# Altium footprint library SparkFun-Connectors.PCBLIB: 379 footprints (part 10 of 24)
Each footprint in its own frame and in the unit in brackets; x right, y up, seen from the top. Pads: shape width x height; smd on the part's side, far side on the other; paste and mask are expansions set on the pad; w line width, h text height; cw(c..) or ccw(c..) is an arc to the next point about the centre after c.
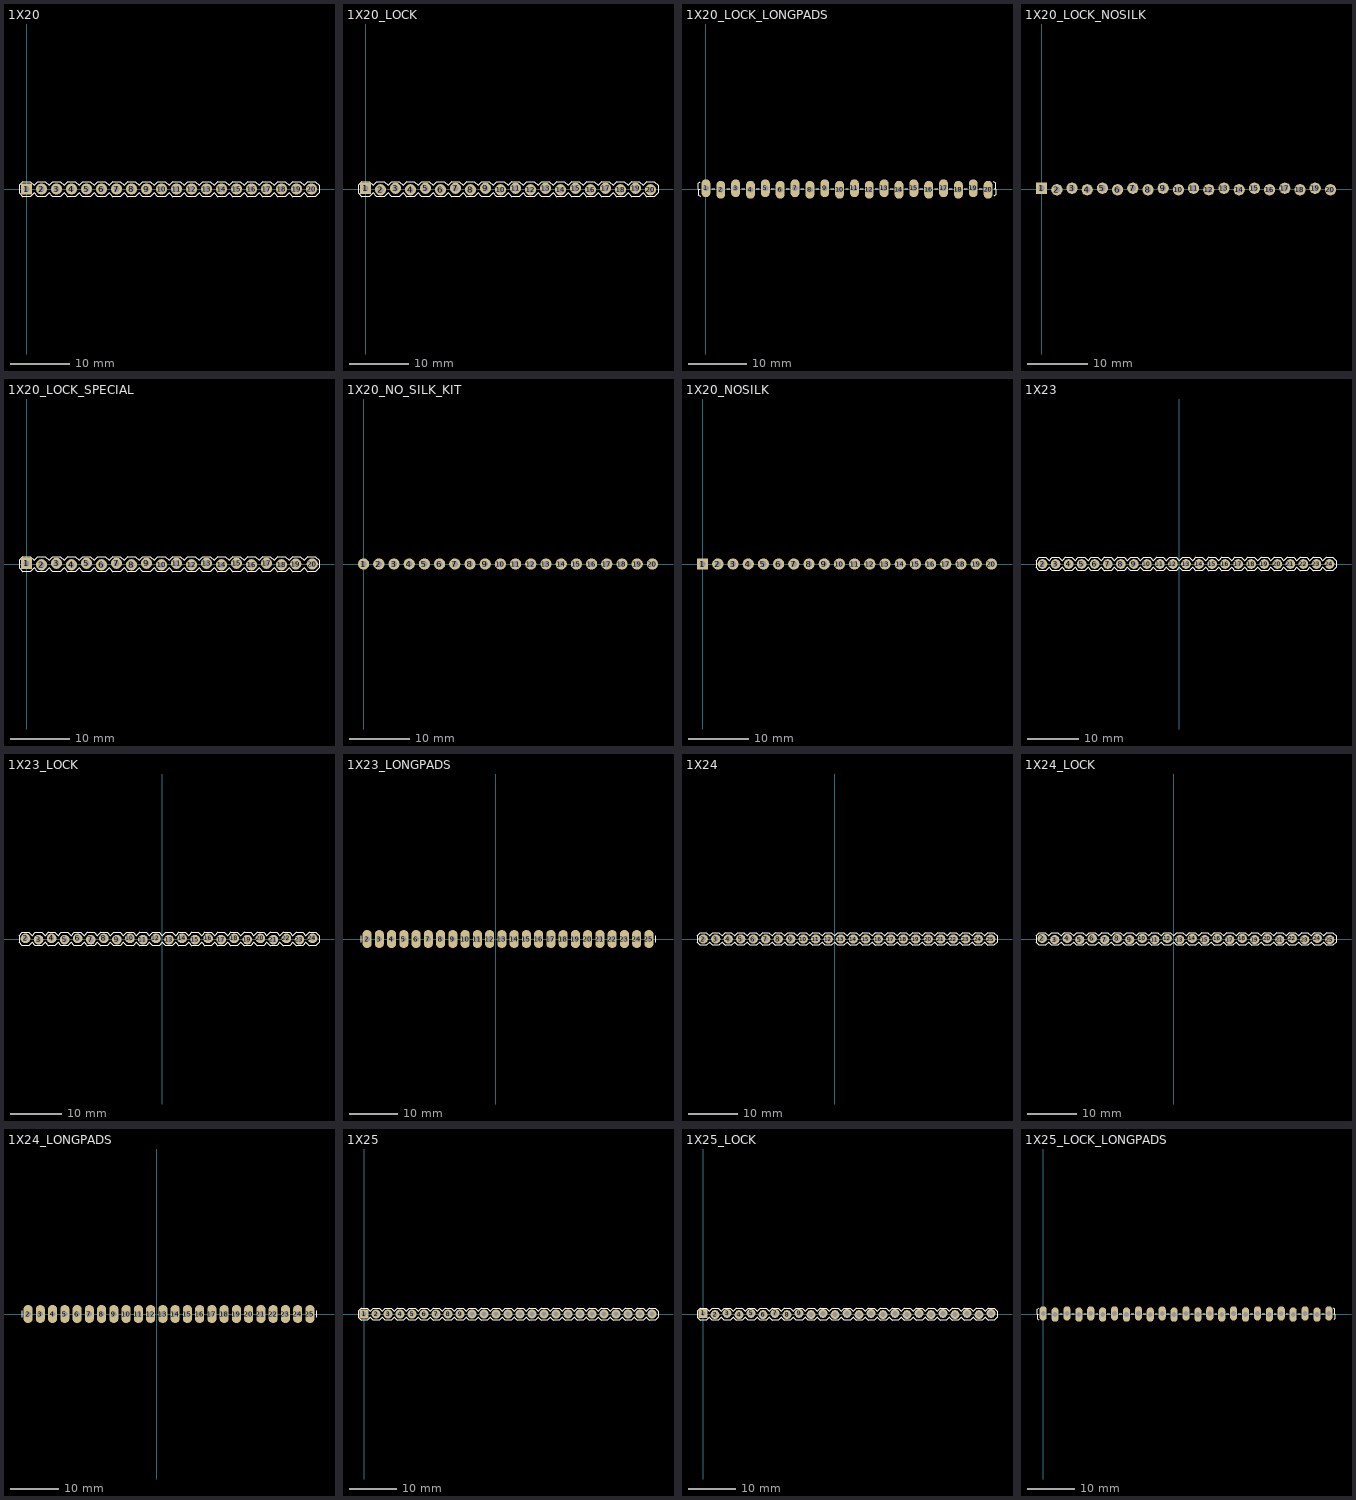
[diagram p9: the footprints below, top view; thin cyan lines are the x and y axes]

## 1X20 [mil]
pads (20):
  rect 74x74 hole 40: 1(0,0)
  round 74 hole 40: 2(100,0) 3(200,0) 4(300,0) 5(400,0) 6(500,0) 7(600,0) 8(700,0) 9(800,0) 10(900,0) 11(1000,0) 12(1100,0) 13(1200,0) 14(1300,0) 15(1400,0) 16(1500,0) 17(1600,0) 18(1700,0) 19(1800,0) 20(1900,0)
Top Overlay:
  lines w8: -50,-25 -50,25 -25,50 25,50 50,25 75,50 125,50 150,25 175,50 225,50 250,25 275,50 325,50 350,25 375,50 425,50 450,25 475,50 525,50 550,25 575,50 625,50 650,25 675,50 725,50 750,25 775,50 825,50 850,25 875,50 925,50 950,25 975,50 1025,50 1050,25 1075,50 1125,50 1150,25 1175,50 1225,50 1250,25 1275,50 1325,50 1350,25 1375,50 1425,50 1450,25 1475,50 1525,50 1550,25 1575,50 1625,50 1650,25 1675,50 1725,50 1750,25 1775,50 1825,50 1850,25 1875,50 1925,50 1950,25 1950,-25 1925,-50 1875,-50 1850,-25 1825,-50 1775,-50 1750,-25 1725,-50 1675,-50 1650,-25 1625,-50 1575,-50 1550,-25 1525,-50 1475,-50 1450,-25 1425,-50 1375,-50 1350,-25 1325,-50 1275,-50 1250,-25 1225,-50 1175,-50 1150,-25 1125,-50 1075,-50 1050,-25 1025,-50 975,-50 950,-25 925,-50 875,-50 850,-25 825,-50 775,-50 750,-25 725,-50 675,-50 650,-25 625,-50 575,-50 550,-25 525,-50 475,-50 450,-25 425,-50 375,-50 350,-25 325,-50 275,-50 250,-25 225,-50 175,-50 150,-25 125,-50 75,-50 50,-25 25,-50 -25,-50 -50,-25
Mechanical 2:
  text ">NAME" at -53,72 h77.5
Mechanical 4:
  text ">VALUE" at -50,-125 h77.5
Mechanical 16:
  rectangle: 590,-10 610,10
  rectangle: 490,-10 510,10
  rectangle: 390,-10 410,10
  rectangle: 290,-10 310,10
  rectangle: 190,-10 210,10
  rectangle: 90,-10 110,10
  rectangle: -10,-10 10,10
  rectangle: 1290,-10 1310,10
  rectangle: 1190,-10 1210,10
  rectangle: 1090,-10 1110,10
  rectangle: 990,-10 1010,10
  rectangle: 890,-10 910,10
  rectangle: 790,-10 810,10
  rectangle: 690,-10 710,10
  rectangle: 1390,-10 1410,10
  rectangle: 1490,-10 1510,10
  rectangle: 1590,-10 1610,10
  rectangle: 1690,-10 1710,10
  rectangle: 1790,-10 1810,10
  rectangle: 1890,-10 1910,10

## 1X20_LOCK [mil]
pads (20):
  rect 74x74 hole 40: 1(0,5)
  round 74 hole 40: 2(100,-5) 3(200,5) 4(300,-5) 5(400,5) 6(500,-5) 7(600,5) 8(700,-5) 9(800,5) 10(900,-5) 11(1000,5) 12(1100,-5) 13(1200,5) 14(1300,-5) 15(1400,5) 16(1500,-5) 17(1600,5) 18(1700,-5) 19(1800,5) 20(1900,-5)
Top Overlay:
  lines w8: -50,-25 -50,25 -25,50 25,50 50,25 75,50 125,50 150,25 175,50 225,50 250,25 275,50 325,50 350,25 375,50 425,50 450,25 475,50 525,50 550,25 575,50 625,50 650,25 675,50 725,50 750,25 775,50 825,50 850,25 875,50 925,50 950,25 975,50 1025,50 1050,25 1075,50 1125,50 1150,25 1175,50 1225,50 1250,25 1275,50 1325,50 1350,25 1375,50 1425,50 1450,25 1475,50 1525,50 1550,25 1575,50 1625,50 1650,25 1675,50 1725,50 1750,25 1775,50 1825,50 1850,25 1875,50 1925,50 1950,25 1950,-25 1925,-50 1875,-50 1850,-25 1825,-50 1775,-50 1750,-25 1725,-50 1675,-50 1650,-25 1625,-50 1575,-50 1550,-25 1525,-50 1475,-50 1450,-25 1425,-50 1375,-50 1350,-25 1325,-50 1275,-50 1250,-25 1225,-50 1175,-50 1150,-25 1125,-50 1075,-50 1050,-25 1025,-50 975,-50 950,-25 925,-50 875,-50 850,-25 825,-50 775,-50 750,-25 725,-50 675,-50 650,-25 625,-50 575,-50 550,-25 525,-50 475,-50 450,-25 425,-50 375,-50 350,-25 325,-50 275,-50 250,-25 225,-50 175,-50 150,-25 125,-50 75,-50 50,-25 25,-50 -25,-50 -50,-25
Mechanical 2:
  text ">NAME" at -53,72 h77.5
Mechanical 4:
  text ">VALUE" at -50,-125 h77.5
Mechanical 16:
  rectangle: 590,-10 610,10
  rectangle: 490,-10 510,10
  rectangle: 390,-10 410,10
  rectangle: 290,-10 310,10
  rectangle: 190,-10 210,10
  rectangle: 90,-10 110,10
  rectangle: -10,-10 10,10
  rectangle: 1290,-10 1310,10
  rectangle: 1190,-10 1210,10
  rectangle: 1090,-10 1110,10
  rectangle: 990,-10 1010,10
  rectangle: 890,-10 910,10
  rectangle: 790,-10 810,10
  rectangle: 690,-10 710,10
  rectangle: 1390,-10 1410,10
  rectangle: 1490,-10 1510,10
  rectangle: 1590,-10 1610,10
  rectangle: 1690,-10 1710,10
  rectangle: 1790,-10 1810,10
  rectangle: 1890,-10 1910,10

## 1X20_LOCK_LONGPADS [mil]
pads (20):
  oval 60x120 hole 40: 1(0,5) 2(100,-5) 3(200,5) 4(300,-5) 5(400,5) 6(500,-5) 7(600,5) 8(700,-5) 9(800,5) 10(900,-5) 11(1000,5) 12(1100,-5) 13(1200,5) 14(1300,-5) 15(1400,5) 16(1500,-5) 17(1600,5) 18(1700,-5) 19(1800,5) 20(1900,-5)
Top Overlay:
  lines w8: -40,0 -50,0 ; -39,-50 -50,-39 -50,0 ; -39,50 -50,39 -50,0 ; 40,0 60,0 ; 140,0 160,0 ; 240,0 260,0 ; 340,0 360,0 ; 440,0 460,0 ; 540,0 560,0 ; 640,0 660,0 ; 740,0 760,0 ; 840,0 860,0 ; 940,0 960,0 ; 1040,0 1060,0 ; 1140,0 1160,0 ; 1240,0 1250,0 1260,0 ; 1340,0 1360,0 ; 1440,0 1460,0 ; 1540,0 1560,0 ; 1640,0 1660,0 ; 1740,0 1760,0 ; 1840,0 1860,0 ; 1939,-50 1950,-39 1950,0 ; 1939,50 1950,39 1950,0 ; 1940,0 1950,0
Mechanical 2:
  text ">NAME" at -50,75 h42.5
Mechanical 4:
  text ">VALUE" at -50,-125 h42.5
Mechanical 16:
  rectangle: -11.5,-11.5 12,12
  rectangle: 89,-11.5 112,12
  rectangle: 189,-11.5 212,12
  region: 312.25,-11.25 312.25,11.75 288.75,11.75 288.75,-11.25
  rectangle: 389,-11.5 412,12
  rectangle: 489,-11.5 512,12
  rectangle: 589,-11.5 612,12
  rectangle: 689,-11.5 712,12
  rectangle: 789,-11.5 812,12
  region: 912.25,-11.25 912.25,11.75 888.75,11.75 888.75,-11.25
  rectangle: 989,-11.5 1012,12
  rectangle: 1089,-11.5 1112,12
  rectangle: 1189,-11.5 1212,12
  rectangle: 1289,-11.5 1312,12
  rectangle: 1389,-11.5 1412,12
  region: 1512.25,-11.25 1512.25,11.75 1488.75,11.75 1488.75,-11.25
  rectangle: 1589,-11.5 1612,12
  rectangle: 1689,-11.5 1712,12
  rectangle: 1789,-11.5 1812,12
  rectangle: 1889,-11.5 1912,12

## 1X20_LOCK_NOSILK [mil]
pads (20):
  rect 74x74 hole 40: 1(0,5)
  round 74 hole 40: 2(100,-5) 3(200,5) 4(300,-5) 5(400,5) 6(500,-5) 7(600,5) 8(700,-5) 9(800,5) 10(900,-5) 11(1000,5) 12(1100,-5) 13(1200,5) 14(1300,-5) 15(1400,5) 16(1500,-5) 17(1600,5) 18(1700,-5) 19(1800,5) 20(1900,-5)
Mechanical 2:
  text ">NAME" at -53,72 h77.5
Mechanical 4:
  text ">VALUE" at -50,-125 h77.5
Mechanical 16:
  rectangle: 590,-10 610,10
  rectangle: 490,-10 510,10
  rectangle: 390,-10 410,10
  rectangle: 290,-10 310,10
  rectangle: 190,-10 210,10
  rectangle: 90,-10 110,10
  rectangle: -10,-10 10,10
  rectangle: 1290,-10 1310,10
  rectangle: 1190,-10 1210,10
  rectangle: 1090,-10 1110,10
  rectangle: 990,-10 1010,10
  rectangle: 890,-10 910,10
  rectangle: 790,-10 810,10
  rectangle: 690,-10 710,10
  rectangle: 1390,-10 1410,10
  rectangle: 1490,-10 1510,10
  rectangle: 1590,-10 1610,10
  rectangle: 1690,-10 1710,10
  rectangle: 1790,-10 1810,10
  rectangle: 1890,-10 1910,10

## 1X20_LOCK_SPECIAL [mil]
pads (20):
  rect 74x74 hole 40: 1(0,5)
  round 74 hole 40: 2(100,-5) 3(200,5) 4(300,-5) 5(400,5) 6(500,-5) 7(600,5) 8(700,-5) 9(800,5) 10(900,-5) 11(1000,5) 12(1100,-5) 13(1200,5) 14(1300,-5) 15(1400,5) 16(1500,-5) 17(1600,5) 18(1700,-5) 19(1795,0) 20(1905,0)
Top Overlay:
  lines w8: -50,-25 -50,25 -25,50 25,50 50,25 75,50 125,50 150,25 175,50 225,50 250,25 275,50 325,50 350,25 375,50 425,50 450,25 475,50 525,50 550,25 575,50 625,50 650,25 675,50 725,50 750,25 775,50 825,50 850,25 875,50 925,50 950,25 975,50 1025,50 1050,25 1075,50 1125,50 1150,25 1175,50 1225,50 1250,25 1275,50 1325,50 1350,25 1375,50 1425,50 1450,25 1475,50 1525,50 1550,25 1575,50 1625,50 1650,25 1675,50 1725,50 1750,25 1775,50 1825,50 1850,25 1875,50 1925,50 1950,25 1950,-25 1925,-50 1875,-50 1850,-25 1825,-50 1775,-50 1750,-25 1725,-50 1675,-50 1650,-25 1625,-50 1575,-50 1550,-25 1525,-50 1475,-50 1450,-25 1425,-50 1375,-50 1350,-25 1325,-50 1275,-50 1250,-25 1225,-50 1175,-50 1150,-25 1125,-50 1075,-50 1050,-25 1025,-50 975,-50 950,-25 925,-50 875,-50 850,-25 825,-50 775,-50 750,-25 725,-50 675,-50 650,-25 625,-50 575,-50 550,-25 525,-50 475,-50 450,-25 425,-50 375,-50 350,-25 325,-50 275,-50 250,-25 225,-50 175,-50 150,-25 125,-50 75,-50 50,-25 25,-50 -25,-50 -50,-25
Mechanical 2:
  text ">NAME" at -53,72 h77.5
Mechanical 4:
  text ">VALUE" at -50,-125 h77.5
Mechanical 16:
  rectangle: 590,-10 610,10
  rectangle: 490,-10 510,10
  rectangle: 390,-10 410,10
  rectangle: 290,-10 310,10
  rectangle: 190,-10 210,10
  rectangle: 90,-10 110,10
  rectangle: -10,-10 10,10
  rectangle: 1290,-10 1310,10
  rectangle: 1190,-10 1210,10
  rectangle: 1090,-10 1110,10
  rectangle: 990,-10 1010,10
  rectangle: 890,-10 910,10
  rectangle: 790,-10 810,10
  rectangle: 690,-10 710,10
  rectangle: 1390,-10 1410,10
  rectangle: 1490,-10 1510,10
  rectangle: 1590,-10 1610,10
  rectangle: 1690,-10 1710,10
  rectangle: 1790,-10 1810,10
  rectangle: 1890,-10 1910,10

## 1X20_NO_SILK_KIT [mil]
pads (20):
  round 74 hole 40: 1(0,0) 2(100,0) 3(200,0) 4(300,0) 5(400,0) 6(500,0) 7(600,0) 8(700,0) 9(800,0) 10(900,0) 11(1000,0) 12(1100,0) 13(1200,0) 14(1300,0) 15(1400,0) 16(1500,0) 17(1600,0) 18(1700,0) 19(1800,0) 20(1900,0)
Top Solder:
  circle w0: c0,0 r20
  circle w0: c100,0 r20
  circle w0: c200,0 r20
  circle w0: c300,0 r20
  circle w0: c400,0 r20
  circle w0: c500,0 r20
  circle w0: c600,0 r20
  circle w0: c700,0 r20
  circle w0: c800,0 r20
  circle w0: c900,0 r20
  circle w0: c1000,0 r20
  circle w0: c1100,0 r20
  circle w0: c1200,0 r20
  circle w0: c1300,0 r20
  circle w0: c1400,0 r20
  circle w0: c1500,0 r20
  circle w0: c1600,0 r20
  circle w0: c1700,0 r20
  circle w0: c1800,0 r20
  circle w0: c1900,0 r20
Bottom Solder:
  circle w0: c0,0 r37
  circle w0: c100,0 r37
  circle w0: c200,0 r37
  circle w0: c300,0 r37
  circle w0: c400,0 r37
  circle w0: c500,0 r37
  circle w0: c600,0 r37
  circle w0: c700,0 r37
  circle w0: c800,0 r37
  circle w0: c900,0 r37
  circle w0: c1000,0 r37
  circle w0: c1100,0 r37
  circle w0: c1200,0 r37
  circle w0: c1300,0 r37
  circle w0: c1400,0 r37
  circle w0: c1500,0 r37
  circle w0: c1600,0 r37
  circle w0: c1700,0 r37
  circle w0: c1800,0 r37
  circle w0: c1900,0 r37
Mechanical 2:
  text ">NAME" at -50,50 h77.5

## 1X20_NOSILK [mil]
pads (20):
  rect 74x74 hole 40: 1(0,0)
  round 74 hole 40: 2(100,0) 3(200,0) 4(300,0) 5(400,0) 6(500,0) 7(600,0) 8(700,0) 9(800,0) 10(900,0) 11(1000,0) 12(1100,0) 13(1200,0) 14(1300,0) 15(1400,0) 16(1500,0) 17(1600,0) 18(1700,0) 19(1800,0) 20(1900,0)
Mechanical 2:
  text ">NAME" at -53,72 h77.5
Mechanical 4:
  text ">VALUE" at -50,-125 h77.5
Mechanical 16:
  rectangle: 590,-10 610,10
  rectangle: 490,-10 510,10
  rectangle: 390,-10 410,10
  rectangle: 290,-10 310,10
  rectangle: 190,-10 210,10
  rectangle: 90,-10 110,10
  rectangle: -10,-10 10,10
  rectangle: 1290,-10 1310,10
  rectangle: 1190,-10 1210,10
  rectangle: 1090,-10 1110,10
  rectangle: 990,-10 1010,10
  rectangle: 890,-10 910,10
  rectangle: 790,-10 810,10
  rectangle: 690,-10 710,10
  rectangle: 1390,-10 1410,10
  rectangle: 1490,-10 1510,10
  rectangle: 1590,-10 1610,10
  rectangle: 1690,-10 1710,10
  rectangle: 1790,-10 1810,10
  rectangle: 1890,-10 1910,10

## 1X23 [mil]
pads (23):
  round 74 hole 40: 2(-1050,0) 3(-950,0) 4(-850,0) 5(-750,0) 6(-650,0) 7(-550,0) 8(-450,0) 9(-350,0) 10(-250,0) 11(-150,0) 12(-50,0) 13(50,0) 14(150,0) 15(250,0) 16(350,0) 17(450,0) 18(550,0) 19(650,0) 20(750,0) 21(850,0) 22(950,0) 23(1050,0) 24(1150,0)
Top Overlay:
  lines w8: -1100,-25 -1075,-50 -1025,-50 -1000,-25 -975,-50 -925,-50 -900,-25 -875,-50 -825,-50 -800,-25 -775,-50 -725,-50 -700,-25 -675,-50 -625,-50 -600,-25 -575,-50 -525,-50 -500,-25 -475,-50 -425,-50 -400,-25 -375,-50 -325,-50 -300,-25 -275,-50 -225,-50 -200,-25 -175,-50 -125,-50 -100,-25 -75,-50 -25,-50 0,-25 25,-50 75,-50 100,-25 125,-50 175,-50 200,-25 225,-50 275,-50 300,-25 325,-50 375,-50 400,-25 425,-50 475,-50 500,-25 525,-50 575,-50 600,-25 625,-50 675,-50 700,-25 725,-50 775,-50 800,-25 825,-50 875,-50 900,-25 925,-50 975,-50 1000,-25 1025,-50 1075,-50 1100,-25 1125,-50 1175,-50 1200,-25 1200,25 1175,50 1125,50 1100,25 1075,50 1025,50 1000,25 975,50 925,50 900,25 875,50 825,50 800,25 775,50 725,50 700,25 675,50 625,50 600,25 575,50 525,50 500,25 475,50 425,50 400,25 375,50 325,50 300,25 275,50 225,50 200,25 175,50 125,50 100,25 75,50 25,50 0,25 -25,50 -75,50 -100,25 -125,50 -175,50 -200,25 -225,50 -275,50 -300,25 -325,50 -375,50 -400,25 -425,50 -475,50 -500,25 -525,50 -575,50 -600,25 -625,50 -675,50 -700,25 -725,50 -775,50 -800,25 -825,50 -875,50 -900,25 -925,50 -975,50 -1000,25 -1025,50 -1075,50 -1100,25 -1100,-25
Mechanical 2:
  text ">NAME" at -1103,72 h77.5
Mechanical 4:
  text ">VALUE" at -1100,-125 h77.5
Mechanical 16:
  rectangle: -560,-10 -540,10
  rectangle: -660,-10 -640,10
  rectangle: -760,-10 -740,10
  rectangle: -860,-10 -840,10
  rectangle: -960,-10 -940,10
  rectangle: -1060,-10 -1040,10
  rectangle: 140,-10 160,10
  rectangle: 40,-10 60,10
  rectangle: -60,-10 -40,10
  rectangle: -160,-10 -140,10
  rectangle: -260,-10 -240,10
  rectangle: -360,-10 -340,10
  rectangle: -460,-10 -440,10
  rectangle: 240,-10 260,10
  rectangle: 340,-10 360,10
  rectangle: 440,-10 460,10
  rectangle: 540,-10 560,10
  rectangle: 640,-10 660,10
  rectangle: 740,-10 760,10
  rectangle: 840,-10 860,10
  rectangle: 940,-10 960,10
  rectangle: 1040,-10 1060,10
  rectangle: 1140,-10 1160,10

## 1X23_LOCK [mil]
pads (23):
  round 74 hole 40: 2(-1050,5) 3(-950,-5) 4(-850,5) 5(-750,-5) 6(-650,5) 7(-550,-5) 8(-450,5) 9(-350,-5) 10(-250,5) 11(-150,-5) 12(-50,5) 13(50,-5) 14(150,5) 15(250,-5) 16(350,5) 17(450,-5) 18(550,5) 19(650,-5) 20(750,5) 21(850,-5) 22(950,5) 23(1050,-5) 24(1150,5)
Top Overlay:
  lines w8: -1100,-25 -1075,-50 -1025,-50 -1000,-25 -975,-50 -925,-50 -900,-25 -875,-50 -825,-50 -800,-25 -775,-50 -725,-50 -700,-25 -675,-50 -625,-50 -600,-25 -575,-50 -525,-50 -500,-25 -475,-50 -425,-50 -400,-25 -375,-50 -325,-50 -300,-25 -275,-50 -225,-50 -200,-25 -175,-50 -125,-50 -100,-25 -75,-50 -25,-50 0,-25 25,-50 75,-50 100,-25 125,-50 175,-50 200,-25 225,-50 275,-50 300,-25 325,-50 375,-50 400,-25 425,-50 475,-50 500,-25 525,-50 575,-50 600,-25 625,-50 675,-50 700,-25 725,-50 775,-50 800,-25 825,-50 875,-50 900,-25 925,-50 975,-50 1000,-25 1025,-50 1075,-50 1100,-25 1125,-50 1175,-50 1200,-25 1200,25 1175,50 1125,50 1100,25 1075,50 1025,50 1000,25 975,50 925,50 900,25 875,50 825,50 800,25 775,50 725,50 700,25 675,50 625,50 600,25 575,50 525,50 500,25 475,50 425,50 400,25 375,50 325,50 300,25 275,50 225,50 200,25 175,50 125,50 100,25 75,50 25,50 0,25 -25,50 -75,50 -100,25 -125,50 -175,50 -200,25 -225,50 -275,50 -300,25 -325,50 -375,50 -400,25 -425,50 -475,50 -500,25 -525,50 -575,50 -600,25 -625,50 -675,50 -700,25 -725,50 -775,50 -800,25 -825,50 -875,50 -900,25 -925,50 -975,50 -1000,25 -1025,50 -1075,50 -1100,25 -1100,-25
Mechanical 2:
  text ">NAME" at -1103,72 h77.5
Mechanical 4:
  text ">VALUE" at -1100,-125 h77.5
Mechanical 16:
  rectangle: -560,-10 -540,10
  rectangle: -660,-10 -640,10
  rectangle: -760,-10 -740,10
  rectangle: -860,-10 -840,10
  rectangle: -960,-10 -940,10
  rectangle: -1060,-10 -1040,10
  rectangle: 140,-10 160,10
  rectangle: 40,-10 60,10
  rectangle: -60,-10 -40,10
  rectangle: -160,-10 -140,10
  rectangle: -260,-10 -240,10
  rectangle: -360,-10 -340,10
  rectangle: -460,-10 -440,10
  rectangle: 240,-10 260,10
  rectangle: 340,-10 360,10
  rectangle: 440,-10 460,10
  rectangle: 540,-10 560,10
  rectangle: 640,-10 660,10
  rectangle: 740,-10 760,10
  rectangle: 840,-10 860,10
  rectangle: 940,-10 960,10
  rectangle: 1040,-10 1060,10
  rectangle: 1140,-10 1160,10

## 1X23_LONGPADS [mil]
pads (24):
  oval 74x148 hole 44: 2(-1050,0) 3(-950,0) 4(-850,0) 5(-750,0) 6(-650,0) 7(-550,0) 8(-450,0) 9(-350,0) 10(-250,0) 11(-150,0) 12(-50,0) 13(50,0) 14(150,0) 15(250,0) 16(350,0) 17(450,0) 18(550,0) 19(650,0) 20(750,0) 21(850,0) 22(950,0) 23(1050,0) 24(1150,0) 25(1250,0)
Top Overlay:
  lines w8: -1100,-25 -1100,25 ; 1300,-25 1300,25
Mechanical 2:
  text ">NAME" at -1103,97 h77.5
Mechanical 4:
  text ">VALUE" at -1100,-150 h77.5
Mechanical 16:
  rectangle: -560,-10 -540,10
  rectangle: -660,-10 -640,10
  rectangle: -760,-10 -740,10
  rectangle: -860,-10 -840,10
  rectangle: -960,-10 -940,10
  rectangle: -1060,-10 -1040,10
  rectangle: 140,-10 160,10
  rectangle: 40,-10 60,10
  rectangle: -60,-10 -40,10
  rectangle: -160,-10 -140,10
  rectangle: -260,-10 -240,10
  rectangle: -360,-10 -340,10
  rectangle: -460,-10 -440,10
  rectangle: 240,-10 260,10
  rectangle: 340,-10 360,10
  rectangle: 440,-10 460,10
  rectangle: 540,-10 560,10
  rectangle: 640,-10 660,10
  rectangle: 740,-10 760,10
  rectangle: 840,-10 860,10
  rectangle: 940,-10 960,10
  rectangle: 1040,-10 1060,10
  rectangle: 1140,-10 1160,10
  rectangle: 1240,-10 1260,10

## 1X24 [mil]
pads (24):
  round 74 hole 40: 2(-1050,0) 3(-950,0) 4(-850,0) 5(-750,0) 6(-650,0) 7(-550,0) 8(-450,0) 9(-350,0) 10(-250,0) 11(-150,0) 12(-50,0) 13(50,0) 14(150,0) 15(250,0) 16(350,0) 17(450,0) 18(550,0) 19(650,0) 20(750,0) 21(850,0) 22(950,0) 23(1050,0) 24(1150,0) 25(1250,0)
Top Overlay:
  lines w8: -1100,-25 -1075,-50 -1025,-50 -1000,-25 -975,-50 -925,-50 -900,-25 -875,-50 -825,-50 -800,-25 -775,-50 -725,-50 -700,-25 -675,-50 -625,-50 -600,-25 -575,-50 -525,-50 -500,-25 -475,-50 -425,-50 -400,-25 -375,-50 -325,-50 -300,-25 -275,-50 -225,-50 -200,-25 -175,-50 -125,-50 -100,-25 -75,-50 -25,-50 0,-25 25,-50 75,-50 100,-25 125,-50 175,-50 200,-25 225,-50 275,-50 300,-25 325,-50 375,-50 400,-25 425,-50 475,-50 500,-25 525,-50 575,-50 600,-25 625,-50 675,-50 700,-25 725,-50 775,-50 800,-25 825,-50 875,-50 900,-25 925,-50 975,-50 1000,-25 1025,-50 1075,-50 1100,-25 1125,-50 1175,-50 1200,-25 1225,-50 1275,-50 1300,-25 1300,25 1275,50 1225,50 1200,25 1175,50 1125,50 1100,25 1075,50 1025,50 1000,25 975,50 925,50 900,25 875,50 825,50 800,25 775,50 725,50 700,25 675,50 625,50 600,25 575,50 525,50 500,25 475,50 425,50 400,25 375,50 325,50 300,25 275,50 225,50 200,25 175,50 125,50 100,25 75,50 25,50 0,25 -25,50 -75,50 -100,25 -125,50 -175,50 -200,25 -225,50 -275,50 -300,25 -325,50 -375,50 -400,25 -425,50 -475,50 -500,25 -525,50 -575,50 -600,25 -625,50 -675,50 -700,25 -725,50 -775,50 -800,25 -825,50 -875,50 -900,25 -925,50 -975,50 -1000,25 -1025,50 -1075,50 -1100,25 -1100,-25
Mechanical 2:
  text ">NAME" at -1103,72 h77.5
Mechanical 4:
  text ">VALUE" at -1100,-125 h77.5
Mechanical 16:
  rectangle: -560,-10 -540,10
  rectangle: -660,-10 -640,10
  rectangle: -760,-10 -740,10
  rectangle: -860,-10 -840,10
  rectangle: -960,-10 -940,10
  rectangle: -1060,-10 -1040,10
  rectangle: 140,-10 160,10
  rectangle: 40,-10 60,10
  rectangle: -60,-10 -40,10
  rectangle: -160,-10 -140,10
  rectangle: -260,-10 -240,10
  rectangle: -360,-10 -340,10
  rectangle: -460,-10 -440,10
  rectangle: 240,-10 260,10
  rectangle: 340,-10 360,10
  rectangle: 440,-10 460,10
  rectangle: 540,-10 560,10
  rectangle: 640,-10 660,10
  rectangle: 740,-10 760,10
  rectangle: 840,-10 860,10
  rectangle: 940,-10 960,10
  rectangle: 1040,-10 1060,10
  rectangle: 1140,-10 1160,10
  rectangle: 1240,-10 1260,10

## 1X24_LOCK [mil]
pads (24):
  round 74 hole 40: 2(-1050,5) 3(-950,-5) 4(-850,5) 5(-750,-5) 6(-650,5) 7(-550,-5) 8(-450,5) 9(-350,-5) 10(-250,5) 11(-150,-5) 12(-50,5) 13(50,-5) 14(150,5) 15(250,-5) 16(350,5) 17(450,-5) 18(550,5) 19(650,-5) 20(750,5) 21(850,-5) 22(950,5) 23(1050,-5) 24(1150,5) 25(1250,-5)
Top Overlay:
  lines w8: -1100,-25 -1075,-50 -1025,-50 -1000,-25 -975,-50 -925,-50 -900,-25 -875,-50 -825,-50 -800,-25 -775,-50 -725,-50 -700,-25 -675,-50 -625,-50 -600,-25 -575,-50 -525,-50 -500,-25 -475,-50 -425,-50 -400,-25 -375,-50 -325,-50 -300,-25 -275,-50 -225,-50 -200,-25 -175,-50 -125,-50 -100,-25 -75,-50 -25,-50 0,-25 25,-50 75,-50 100,-25 125,-50 175,-50 200,-25 225,-50 275,-50 300,-25 325,-50 375,-50 400,-25 425,-50 475,-50 500,-25 525,-50 575,-50 600,-25 625,-50 675,-50 700,-25 725,-50 775,-50 800,-25 825,-50 875,-50 900,-25 925,-50 975,-50 1000,-25 1025,-50 1075,-50 1100,-25 1125,-50 1175,-50 1200,-25 1225,-50 1275,-50 1300,-25 1300,25 1275,50 1225,50 1200,25 1175,50 1125,50 1100,25 1075,50 1025,50 1000,25 975,50 925,50 900,25 875,50 825,50 800,25 775,50 725,50 700,25 675,50 625,50 600,25 575,50 525,50 500,25 475,50 425,50 400,25 375,50 325,50 300,25 275,50 225,50 200,25 175,50 125,50 100,25 75,50 25,50 0,25 -25,50 -75,50 -100,25 -125,50 -175,50 -200,25 -225,50 -275,50 -300,25 -325,50 -375,50 -400,25 -425,50 -475,50 -500,25 -525,50 -575,50 -600,25 -625,50 -675,50 -700,25 -725,50 -775,50 -800,25 -825,50 -875,50 -900,25 -925,50 -975,50 -1000,25 -1025,50 -1075,50 -1100,25 -1100,-25
Mechanical 2:
  text ">NAME" at -1103,72 h77.5
Mechanical 4:
  text ">VALUE" at -1100,-125 h77.5
Mechanical 16:
  rectangle: -560,-10 -540,10
  rectangle: -660,-10 -640,10
  rectangle: -760,-10 -740,10
  rectangle: -860,-10 -840,10
  rectangle: -960,-10 -940,10
  rectangle: -1060,-10 -1040,10
  rectangle: 140,-10 160,10
  rectangle: 40,-10 60,10
  rectangle: -60,-10 -40,10
  rectangle: -160,-10 -140,10
  rectangle: -260,-10 -240,10
  rectangle: -360,-10 -340,10
  rectangle: -460,-10 -440,10
  rectangle: 240,-10 260,10
  rectangle: 340,-10 360,10
  rectangle: 440,-10 460,10
  rectangle: 540,-10 560,10
  rectangle: 640,-10 660,10
  rectangle: 740,-10 760,10
  rectangle: 840,-10 860,10
  rectangle: 940,-10 960,10
  rectangle: 1040,-10 1060,10
  rectangle: 1140,-10 1160,10
  rectangle: 1240,-10 1260,10

## 1X24_LONGPADS [mil]
pads (24):
  oval 74x148 hole 44: 2(-1050,0) 3(-950,0) 4(-850,0) 5(-750,0) 6(-650,0) 7(-550,0) 8(-450,0) 9(-350,0) 10(-250,0) 11(-150,0) 12(-50,0) 13(50,0) 14(150,0) 15(250,0) 16(350,0) 17(450,0) 18(550,0) 19(650,0) 20(750,0) 21(850,0) 22(950,0) 23(1050,0) 24(1150,0) 25(1250,0)
Top Overlay:
  lines w8: -1100,-25 -1100,25 ; 1300,-25 1300,25
Mechanical 2:
  text ">NAME" at -1103,97 h77.5
Mechanical 4:
  text ">VALUE" at -1100,-150 h77.5
Mechanical 16:
  rectangle: -560,-10 -540,10
  rectangle: -660,-10 -640,10
  rectangle: -760,-10 -740,10
  rectangle: -860,-10 -840,10
  rectangle: -960,-10 -940,10
  rectangle: -1060,-10 -1040,10
  rectangle: 140,-10 160,10
  rectangle: 40,-10 60,10
  rectangle: -60,-10 -40,10
  rectangle: -160,-10 -140,10
  rectangle: -260,-10 -240,10
  rectangle: -360,-10 -340,10
  rectangle: -460,-10 -440,10
  rectangle: 240,-10 260,10
  rectangle: 340,-10 360,10
  rectangle: 440,-10 460,10
  rectangle: 540,-10 560,10
  rectangle: 640,-10 660,10
  rectangle: 740,-10 760,10
  rectangle: 840,-10 860,10
  rectangle: 940,-10 960,10
  rectangle: 1040,-10 1060,10
  rectangle: 1140,-10 1160,10
  rectangle: 1240,-10 1260,10

## 1X25 [mil]
pads (25):
  rect 74x74 hole 40: 1(0,0)
  round 74 hole 40: 2(100,0) 3(200,0) 4(300,0) 5(400,0) 6(500,0) 7(600,0) 8(700,0) 9(800,0) 10(900,0) 11(1000,0) 12(1100,0) 13(1200,0) 14(1300,0) 15(1400,0) 16(1500,0) 17(1600,0) 18(1700,0) 19(1800,0) 20(1900,0) 21(2000,0) 22(2100,0) 23(2200,0) 24(2300,0) 25(2400,0)
Top Overlay:
  drawing of 152 lines, arcs and shapes, not listed
Mechanical 2:
  text ">NAME" at -53,72 h77.5
Mechanical 4:
  text ">VALUE" at -50,-125 h77.5
Mechanical 16:
  rectangle: 590,-10 610,10
  rectangle: 490,-10 510,10
  rectangle: 390,-10 410,10
  rectangle: 290,-10 310,10
  rectangle: 190,-10 210,10
  rectangle: 90,-10 110,10
  rectangle: -10,-10 10,10
  rectangle: 1290,-10 1310,10
  rectangle: 1190,-10 1210,10
  rectangle: 1090,-10 1110,10
  rectangle: 990,-10 1010,10
  rectangle: 890,-10 910,10
  rectangle: 790,-10 810,10
  rectangle: 690,-10 710,10
  rectangle: 1390,-10 1410,10
  rectangle: 1490,-10 1510,10
  rectangle: 1590,-10 1610,10
  rectangle: 1690,-10 1710,10
  rectangle: 1790,-10 1810,10
  rectangle: 1890,-10 1910,10
  rectangle: 1990,-10 2010,10
  rectangle: 2090,-10 2110,10
  rectangle: 2190,-10 2210,10
  rectangle: 2290,-10 2310,10
  rectangle: 2390,-10 2410,10

## 1X25_LOCK [mil]
pads (25):
  rect 74x74 hole 40: 1(0,5)
  round 74 hole 40: 2(100,-5) 3(200,5) 4(300,-5) 5(400,5) 6(500,-5) 7(600,5) 8(700,-5) 9(800,5) 10(900,-5) 11(1000,5) 12(1100,-5) 13(1200,5) 14(1300,-5) 15(1400,5) 16(1500,-5) 17(1600,5) 18(1700,-5) 19(1800,5) 20(1900,-5) 21(2000,5) 22(2100,-5) 23(2200,5) 24(2300,-5) 25(2400,5)
Top Overlay:
  drawing of 154 lines, arcs and shapes, not listed
Mechanical 2:
  text ">NAME" at -53,72 h77.5
Mechanical 4:
  text ">VALUE" at -50,-125 h77.5
Mechanical 16:
  rectangle: 590,-10 610,10
  rectangle: 490,-10 510,10
  rectangle: 390,-10 410,10
  rectangle: 290,-10 310,10
  rectangle: 190,-10 210,10
  rectangle: 90,-10 110,10
  rectangle: -10,-10 10,10
  rectangle: 1290,-10 1310,10
  rectangle: 1190,-10 1210,10
  rectangle: 1090,-10 1110,10
  rectangle: 990,-10 1010,10
  rectangle: 890,-10 910,10
  rectangle: 790,-10 810,10
  rectangle: 690,-10 710,10
  rectangle: 1390,-10 1410,10
  rectangle: 1490,-10 1510,10
  rectangle: 1590,-10 1610,10
  rectangle: 1690,-10 1710,10
  rectangle: 1790,-10 1810,10
  rectangle: 1890,-10 1910,10
  rectangle: 1990,-10 2010,10
  rectangle: 2090,-10 2110,10
  rectangle: 2190,-10 2210,10
  rectangle: 2290,-10 2310,10
  rectangle: 2390,-10 2410,10

## 1X25_LOCK_LONGPADS [mil]
pads (25):
  oval 60x120 hole 40: 1(0,5) 2(100,-5) 3(200,5) 4(300,-5) 5(400,5) 6(500,-5) 7(600,5) 8(700,-5) 9(800,5) 10(900,-5) 11(1000,5) 12(1100,-5) 13(1200,5) 14(1300,-5) 15(1400,5) 16(1500,-5) 17(1600,5) 18(1700,-5) 19(1800,5) 20(1900,-5) 21(2000,5) 22(2100,-5) 23(2200,5) 24(2300,-5) 25(2400,5)
Top Overlay:
  lines w8: -40,0 -50,0 ; -39,-50 -50,-39 -50,0 ; -39,50 -50,39 -50,0 ; 40,0 60,0 ; 140,0 160,0 ; 240,0 260,0 ; 340,0 360,0 ; 440,0 460,0 ; 540,0 560,0 ; 640,0 660,0 ; 740,0 760,0 ; 840,0 860,0 ; 940,0 960,0 ; 1040,0 1060,0 ; 1140,0 1160,0 ; 1240,0 1250,0 1260,0 ; 1340,0 1360,0 ; 1440,0 1460,0 ; 1540,0 1560,0 ; 1640,0 1660,0 ; 1740,0 1760,0 ; 1840,0 1860,0 ; 1950,0 1940,0 1960,0 ; 2040,0 2060,0 ; 2140,0 2160,0 ; 2240,0 2260,0 ; 2350,0 2340,0 2360,0 ; 2439,-50 2450,-39 2450,0 ; 2439,50 2450,39 2450,0 ; 2440,0 2450,0
Mechanical 2:
  text ">NAME" at -50,75 h42.5
Mechanical 4:
  text ">VALUE" at -50,-125 h42.5
Mechanical 16:
  rectangle: -11.5,-11.5 12,12
  rectangle: 89,-11.5 112,12
  rectangle: 189,-11.5 212,12
  region: 312.25,-11.25 312.25,11.75 288.75,11.75 288.75,-11.25
  rectangle: 389,-11.5 412,12
  rectangle: 489,-11.5 512,12
  rectangle: 589,-11.5 612,12
  rectangle: 689,-11.5 712,12
  rectangle: 789,-11.5 812,12
  region: 912.25,-11.25 912.25,11.75 888.75,11.75 888.75,-11.25
  rectangle: 989,-11.5 1012,12
  rectangle: 1089,-11.5 1112,12
  rectangle: 1189,-11.5 1212,12
  rectangle: 1289,-11.5 1312,12
  rectangle: 1389,-11.5 1412,12
  region: 1512.25,-11.25 1512.25,11.75 1488.75,11.75 1488.75,-11.25
  rectangle: 1589,-11.5 1612,12
  rectangle: 1689,-11.5 1712,12
  rectangle: 1789,-11.5 1812,12
  rectangle: 1889,-11.5 1912,12
  rectangle: 1989,-11.5 2012,12
  rectangle: 2089,-11.5 2112,12
  rectangle: 2189,-11.5 2212,12
  rectangle: 2289,-11.5 2312,12
  rectangle: 2389,-11.5 2412,12